# EAGLE library part H1102 (library Discrete)
Pulse H1102 (H1121, HX1188) 10/100BASE-T Single Port Surface Mount Magnetics with various turns ratiios
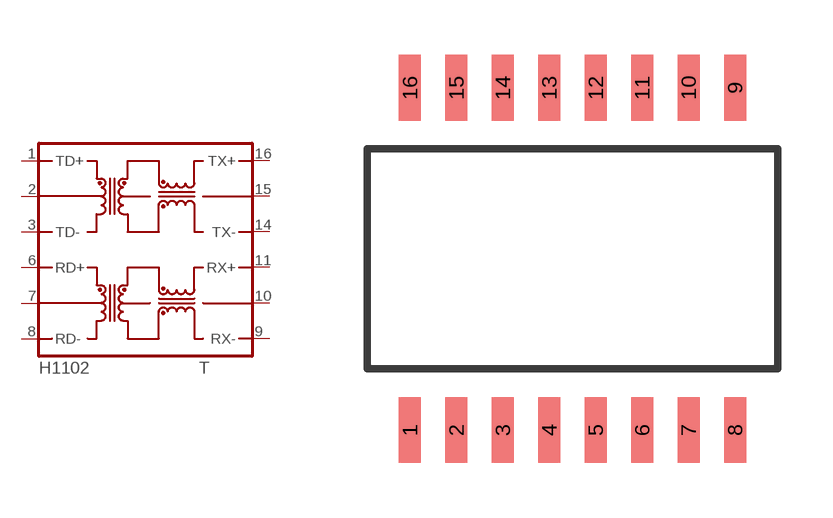
[diagram p9: symbol with the pads of SOIC16-W; footprint SOIC16-W]

Designator prefix T

## H1102  [SOIC16-W]
1  TD+  in
2  TDCT
3  TD-  in
6  RD+  out
7  RDCT
8  RD-  out
9  RX-  in
10  RXCT
11  RX+  in
14  TX-  out
15  TXCT
16  TX+  out

## Footprint SOIC16-W (pad centres in mm)
SOIC16 (wide) form Pulse
smd 0.6 x 1.8: 1 -4.445,-4.679; 2 -3.175,-4.679; 3 -1.905,-4.679; 4 -0.635,-4.679; 5 0.635,-4.679; 6 1.905,-4.679; 7 3.175,-4.679; 8 4.445,-4.679; 9 4.445,4.679; 10 3.175,4.679; 11 1.905,4.679; 12 0.635,4.679; 13 -0.635,4.679; 14 -1.905,4.679; 15 -3.175,4.679; 16 -4.445,4.679